# Altium schematic symbol library Schlib1.SchLib: 4 symbols
Pins are listed as number, name and electrical type; pins without a type are passive.

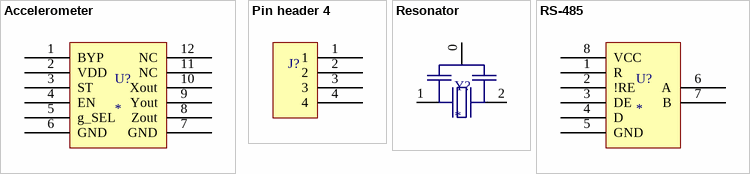
[diagram p0: symbols Accelerometer to RS-485]

## Accelerometer
designator U?
footprint Accel
pins: 1 BYP, 2 VDD, 3 ST, 4 EN, 5 g_SEL, 6 GND, 7 GND, 8 Zout, 9 Yout, 10 Xout, 11 NC, 12 NC

## Pin header 4
designator J?  (value not drawn)
footprint Pin Header 4 (4-pin pin header)
pins: 1, 2, 3, 4

## Resonator
designator Y?
footprint Ceramic Resonator
pins: 0 GND, 1, 2

## RS-485
designator U?
footprint RS-485
pins: 1 R, 2 !RE, 3 DE, 4 D, 5 GND, 6 A, 7 B, 8 VCC